# Altium footprint library PCB - Resistor - KNP-50JT-52-10R.PcbLib: 1 footprints
Each footprint in its own frame and in the unit in brackets; x right, y up, seen from the top. Pads: shape width x height; smd on the part's side, far side on the other; paste and mask are expansions set on the pad; w line width, h text height; cw(c..) or ccw(c..) is an arc to the next point about the centre after c.
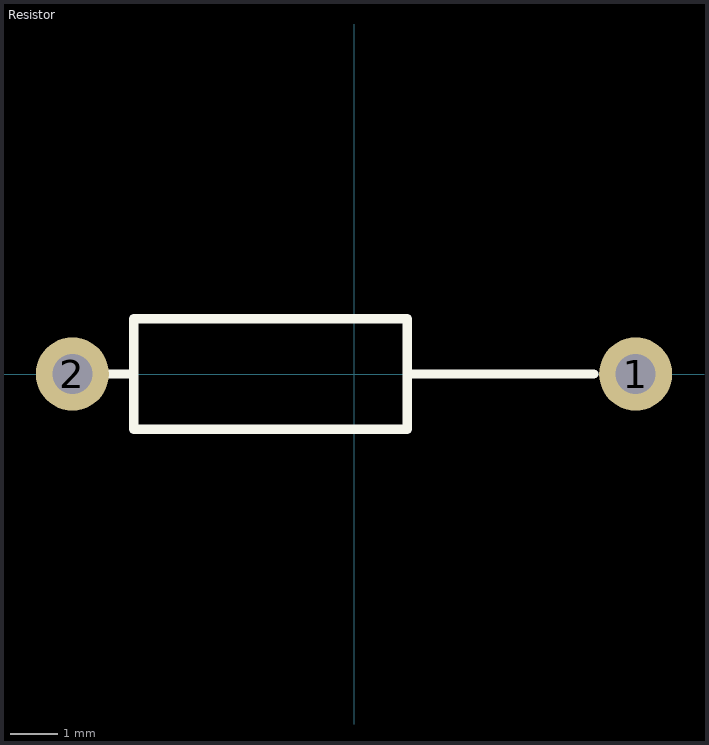
[diagram p0: the footprint, top view; thin cyan lines are the x and y axes]

## Resistor [mm]
pads (2):
  round 1.55 hole 0.85: 1(5.969,0) 2(-5.969,0)
Top Overlay:
  lines w0.2: -5.969,0 -4.699,0 ; 1.126,0 5.08,0 ; -4.667,-1.175 -3.524,-1.175 1.126,-1.175 1.126,1.175 -3.524,1.175 -4.667,1.175 -4.667,0.587 -4.667,-0.587 -4.667,-1.175
Mechanical 13:
  lines w0.1: -4.699,-1.175 1.126,-1.175 1.126,1.175 -4.699,1.175 -4.699,-1.175
3D body: height 1.4, standoff 0.8, extent -6.127,-0.254 5.873,0.344
3D body: height 2.34, standoff 0, extent -4.112,-1.175 0.539,1.17
3D body: height 2.34, standoff 0, extent -2.354,-1.174 -2.154,1.174